# Altium footprint library Package_DFN_QFN_SON.PcbLib: 78 footprints (part 1 of 5)
Each footprint in its own frame and in the unit in brackets; x right, y up, seen from the top. Pads: shape width x height; smd on the part's side, far side on the other; paste and mask are expansions set on the pad; w line width, h text height; cw(c..) or ccw(c..) is an arc to the next point about the centre after c.
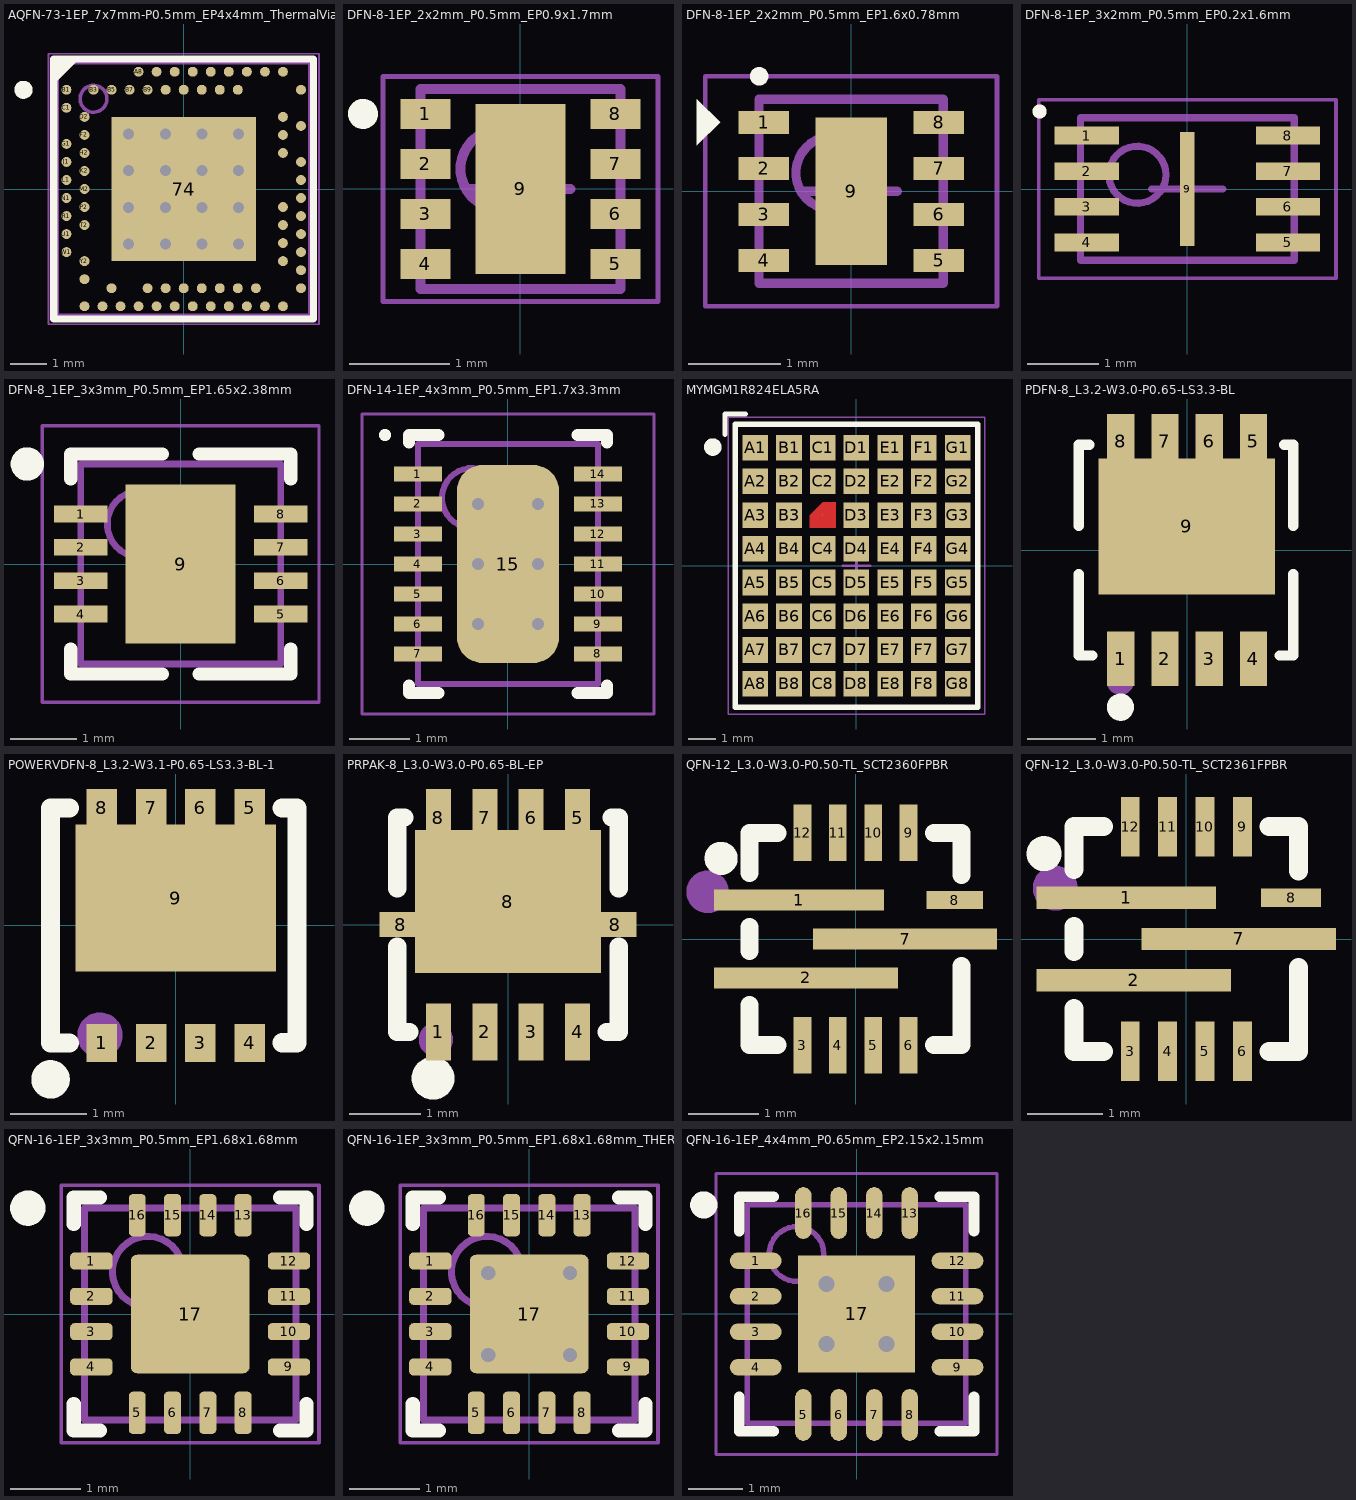
[diagram p0: the footprints below, top view; thin cyan lines are the x and y axes]

## AQFN-73-1EP_7x7mm-P0.5mm_EP4x4mm_ThermalVias [mm]
pads (74):
  rect 4x4 smd mask+0.05: 74(0,0)
  round 0.275 smd paste+0.012 mask+0.05: A8(-1.25,3.25) A10(-0.75,3.25) A12(-0.25,3.25) A14(0.25,3.25) A16(0.75,3.25) A18(1.25,3.25) A20(1.75,3.25) A22(2.25,3.25) A23(2.75,3.25) AA24(3.25,-2.25) AB2(-2.75,-2.5) AC5(-2,-2.75) AC9(-1,-2.75) AC11(-0.5,-2.75) AC13(0,-2.75) AC15(0.5,-2.75) AC17(1,-2.75) AC19(1.5,-2.75) AC21(2,-2.75) AC24(3.25,-2.75) AD2(-2.75,-3.25) AD4(-2.25,-3.25) AD6(-1.75,-3.25) AD8(-1.25,-3.25) AD10(-0.75,-3.25) AD12(-0.25,-3.25) AD14(0.25,-3.25) AD16(0.75,-3.25) AD18(1.25,-3.25) AD20(1.75,-3.25) AD22(2.25,-3.25) AD23(2.75,-3.25) B1(-3.25,2.75) B3(-2.5,2.75) B5(-2,2.75) B7(-1.5,2.75) B9(-1,2.75) B11(-0.5,2.75) B13(0,2.75) B15(0.5,2.75) B17(1,2.75) B19(1.5,2.75) B24(3.25,2.75) C1(-3.25,2.25) D2(-2.75,2) D23(2.75,2) E24(3.25,1.75) F2(-2.75,1.5) F23(2.75,1.5) G1(-3.25,1.25) H2(-2.75,1) H23(2.75,1) J1(-3.25,0.75) J24(3.25,0.75) K2(-2.75,0.5) L1(-3.25,0.25) L24(3.25,0.25) M2(-2.75,0) N1(-3.25,-0.25) N24(3.25,-0.25) P2(-2.75,-0.5) P23(2.75,-0.5) R1(-3.25,-0.75) R24(3.25,-0.75) T2(-2.75,-1) T23(2.75,-1) U1(-3.25,-1.25) U24(3.25,-1.25) V23(2.75,-1.5) W1(-3.25,-1.75) W24(3.25,-1.75) Y2(-2.75,-2) Y23(2.75,-2)
via 1.524,1.524 diameter 0.61 hole 0.305
via 0.508,1.524 diameter 0.61 hole 0.305
via -0.508,1.524 diameter 0.61 hole 0.305
via -1.524,1.524 diameter 0.61 hole 0.305
via -1.524,0.508 diameter 0.61 hole 0.305
via -1.524,-0.508 diameter 0.61 hole 0.305
via -1.524,-1.524 diameter 0.61 hole 0.305
via -0.508,-1.524 diameter 0.61 hole 0.305
via 0.508,-1.524 diameter 0.61 hole 0.305
via 1.524,-1.524 diameter 0.61 hole 0.305
via 1.524,-0.508 diameter 0.61 hole 0.305
via 1.524,0.508 diameter 0.61 hole 0.305
via -0.508,-0.508 diameter 0.61 hole 0.305
via 0.508,0.508 diameter 0.61 hole 0.305
via -0.508,0.508 diameter 0.61 hole 0.305
via 0.508,-0.508 diameter 0.61 hole 0.305
Top Overlay:
  circle w0.25: c-4.44,2.75 r0.125
  region: -3,3.5 -3.5,3 -3.5,3.5
  lines w0.2: -3.6,-3.6 3.6,-3.6 3.6,3.6 -3.6,3.6 -3.6,-3.6
Mechanical 7:
  circle w0.1: c-2.5,2.5 r0.373
  lines w0.1: -3.5,-3.5 -3.5,3.5 3.5,3.5 3.5,-3.5 -3.5,-3.5
  text ".Designator" at -0.166,-0.301 h0.3
Mechanical 15:
  lines w0.05: -3.75,-3.75 3.75,-3.75 3.75,3.75 -3.75,3.75 -3.75,-3.75
  lines w0.1: -0.5,0 0.5,0 ; 0,-0.5 0,0.5
3D body "LGA88C25P25X25_700X700X85.step": height 0.85, standoff 0, extent -3.55,-3.55 3.55,3.55

## DFN-4-EP(1x1) [mm]

## DFN-8-1EP_2x2mm_P0.5mm_EP0.9x1.7mm [mm] "SON, 8-Leads, Body 2.00x2.00mm, Pitch 0.50mm, Thermal Pad 1.55x0.78mm, IPC Medium Density"
height 0.45
pads (9):
  rect 0.5x0.3 smd: 1(-0.95,0.75) 2(-0.95,0.25) 3(-0.95,-0.25) 4(-0.95,-0.75) 5(0.95,-0.75) 6(0.95,-0.25) 7(0.95,0.25) 8(0.95,0.75)
  rect 0.9x1.7 smd: 9(0,0)
Top Overlay:
  circle w0.2: c-1.575,0.75 r0.05
Mechanical 13:
  circle w0.1: c-0.2,0.2 r0.4
  lines w0.1: -1,-1 -1,1 1,1 1,-1 -1,-1
Mechanical 15:
  lines w0.05: -1.375,-1.126 -1.375,1.125 1.375,1.125 1.375,-1.126 -1.375,-1.126
  lines w0.1: -0.5,0 0.5,0 ; 0,-0.5 0,0.5
3D body "SON50P200X45_HS-9N.step": height 0.45, standoff 0, extent -1.05,-1 1.05,1

## DFN-8-1EP_2x2mm_P0.5mm_EP1.6x0.78mm [mm] "SON, 8-Leads, Body 2.00x2.00mm, Pitch 0.50mm, Thermal Pad 1.60x0.78mm, IPC Medium Density"
height 0.8
pads (9):
  rect 0.55x0.25 smd: 1(-0.95,0.75) 2(-0.95,0.25) 3(-0.95,-0.25) 4(-0.95,-0.75) 5(0.95,-0.75) 6(0.95,-0.25) 7(0.95,0.25) 8(0.95,0.75)
  rect 0.78x1.6 smd: 9(0,0)
Top Overlay:
  circle w0.1: c-1,1.25 r0.05
  region: -1.425,0.75 -1.675,1 -1.675,0.5
Mechanical 13:
  circle w0.1: c-0.2,0.2 r0.4
  lines w0.1: -1,-1 -1,1 1,1 1,-1 -1,-1
Mechanical 15:
  lines w0.05: -1.585,-1.25 -1.585,1.25 1.585,1.25 1.585,-1.25 -1.585,-1.25
  lines w0.1: -0.5,0 0.5,0 ; 0,-0.5 0,0.5
3D body "SON50P200X80_HS-9N.step": height 0.8, standoff 0, extent -1.01,-1 1.01,1

## DFN-8-1EP_3x2mm_P0.5mm_EP0.2x1.6mm [mm] "SON, 8-Leads, Body 2.00x3.00mm, Pitch 0.50mm, Thermal Pad 1.60x0.20mm, IPC Medium Density"
height 0.55
pads (9):
  rect 0.9x0.25 smd: 1(-1.41,0.75) 2(-1.41,0.25) 3(-1.41,-0.25) 4(-1.41,-0.75) 5(1.41,-0.75) 6(1.41,-0.25) 7(1.41,0.25) 8(1.41,0.75)
  rect 0.2x1.6 smd: 9(0,0)
Top Overlay:
  circle w0.1: c-2.072,1.087 r0.05
Mechanical 13:
  circle w0.1: c-0.7,0.2 r0.4
  lines w0.1: -1.5,-1 1.5,-1 1.5,1 -1.5,1 -1.5,-1
Mechanical 15:
  lines w0.05: -2.085,-1.25 2.085,-1.25 2.085,1.25 -2.085,1.25 -2.085,-1.25
  lines w0.1: -0.5,0 0.5,0 ; 0,-0.5 0,0.5
3D body "SON50P300X55_HS-9N.step": height 0.55, standoff 0.02, extent -1.5,-1 1.5,1

## DFN-8_1EP_3x3mm_P0.5mm_EP1.65x2.38mm [mm] "QFN, 8-Leads, Body 3.00x3.00mm, Pitch 0.50mm, Thermal Pad 1.65x2.38mm, IPC Medium Density"
height 0.75
pads (9):
  rect 0.8x0.25 smd: 1(-1.5,0.75) 2(-1.5,0.25) 3(-1.5,-0.25) 4(-1.5,-0.75) 5(1.5,-0.75) 6(1.5,-0.25) 7(1.5,0.25) 8(1.5,0.75)
  rect 1.65x2.38 smd: 9(0,0)
Top Overlay:
  circle w0.25: c-2.3,1.5 r0.125
  lines w0.2: -1.65,-1.275 -1.65,-1.65 -0.275,-1.65 ; -1.65,1.275 -1.65,1.65 -0.275,1.65 ; 0.275,-1.65 1.65,-1.65 1.65,-1.275 ; 0.275,1.65 1.65,1.65 1.65,1.275
Mechanical 13:
  circle w0.1: c-0.6,0.6 r0.5
  lines w0.1: -1.5,-1.5 -1.5,1.5 1.5,1.5 1.5,-1.5 -1.5,-1.5
Mechanical 15:
  lines w0.05: -2.075,-2.075 -2.075,2.075 2.075,2.075 2.075,-2.075 -2.075,-2.075
  lines w0.1: -0.5,0 0.5,0 ; 0,-0.5 0,0.5
3D body "QFN50P300X300X75_HS-9N.step": height 0.75, standoff 0, extent -1.52,-1.5 1.52,1.5

## DFN-14-1EP_4x3mm_P0.5mm_EP1.7x3.3mm [mm] "SON, 14-Leads, Body 4.00x3.00mm, Pitch 0.50mm, Thermal Pad 3.30x1.70mm, IPC Low Density"
height 0.75
pads (15):
  rect 0.8x0.25 smd: 1(-1.5,1.5) 2(-1.5,1) 3(-1.5,0.5) 4(-1.5,0) 5(-1.5,-0.5) 6(-1.5,-1) 7(-1.5,-1.5) 8(1.5,-1.5) 9(1.5,-1) 10(1.5,-0.5) 11(1.5,0) 12(1.5,0.5) 13(1.5,1) 14(1.5,1.5)
  rrect50% 1.7x3.3 smd: 15(0,0)
via -0.5,1 diameter 0.5 hole 0.2
via 0.5,1 diameter 0.5 hole 0.2
via -0.5,0 diameter 0.5 hole 0.2
via 0.5,0 diameter 0.5 hole 0.2
via -0.5,-1 diameter 0.5 hole 0.2
via 0.5,-1 diameter 0.5 hole 0.2
Top Overlay:
  circle w0.1: c-2.05,2.15 r0.05
  lines w0.2: -1.65,-2.025 -1.65,-2.15 -1.16,-2.15 ; -1.65,2.025 -1.65,2.15 -1.16,2.15 ; 1.16,-2.15 1.65,-2.15 1.65,-2.025 ; 1.16,2.15 1.65,2.15 1.65,2.025
Mechanical 13:
  circle w0.1: c-0.6,1.1 r0.5
  lines w0.1: -1.5,-2 -1.5,2 1.5,2 1.5,-2 -1.5,-2
Mechanical 15:
  lines w0.05: -2.435,-2.5 -2.435,2.5 2.435,2.5 2.435,-2.5 -2.435,-2.5
  lines w0.1: -0.5,0 0.5,0 ; 0,-0.5 0,0.5
3D body "SON50P300X75_HS-15M.step": height 0.75, standoff 0, extent -1.6,-2 1.6,2

## MYMGM1R824ELA5RA [mm] "MYMGM1R824ELA5RA"
height 3.5
pads (56):
  rect 0.95x0.95 smd: A1(-3.75,4.375) A2(-3.75,3.125) A3(-3.75,1.875) A4(-3.75,0.625) A5(-3.75,-0.625) A6(-3.75,-1.875) A7(-3.75,-3.125) A8(-3.75,-4.375) B1(-2.5,4.375) B2(-2.5,3.125) B3(-2.5,1.875) B4(-2.5,0.625) B5(-2.5,-0.625) B6(-2.5,-1.875) B7(-2.5,-3.125) B8(-2.5,-4.375) C1(-1.25,4.375) C2(-1.25,3.125) C4(-1.25,0.625) C5(-1.25,-0.625) C6(-1.25,-1.875) C7(-1.25,-3.125) C8(-1.25,-4.375) D1(0,4.375) D2(0,3.125) D3(0,1.875) D4(0,0.625) D5(0,-0.625) D6(0,-1.875) D7(0,-3.125) D8(0,-4.375) E1(1.25,4.375) E2(1.25,3.125) E3(1.25,1.875) E4(1.25,0.625) E5(1.25,-0.625) E6(1.25,-1.875) E7(1.25,-3.125) E8(1.25,-4.375) F1(2.5,4.375) F2(2.5,3.125) F3(2.5,1.875) F4(2.5,0.625) F5(2.5,-0.625) F6(2.5,-1.875) F7(2.5,-3.125) F8(2.5,-4.375) G1(3.75,4.375) G2(3.75,3.125) G3(3.75,1.875) G4(3.75,0.625) G5(3.75,-0.625) G6(3.75,-1.875) G7(3.75,-3.125) G8(3.75,-4.375)
  round 0.025 smd: C3(-1.25,1.875)
Top Layer:
  region: -1.725,1.4 -1.725,1.875 -1.25,2.35 -0.775,2.35 -0.775,1.4
Top Overlay:
  circle w0.4: c-5.325,4.4 r0.125
  lines w0.2: -4.875,4.875 -4.875,5.625 -4.125,5.625 ; -4.5,-5.25 -4.5,5.25 4.5,5.25 4.5,-5.25 -4.5,-5.25
Mechanical 13:
  lines w0.1: -4.5,-5.25 4.5,-5.25 4.5,5.25 -4.5,5.25 -4.5,-5.25
Mechanical 15:
  lines w0.05: -4.75,-5.5 4.75,-5.5 4.75,5.5 -4.75,5.5 -4.75,-5.5
  lines w0.1: -0.5,0 0.5,0 ; 0,-0.5 0,0.5
3D body "MYMGM1R824_MYMGM1R816_step.STEP": height 4.98, standoff -0.02, extent -4.5,-5.25 4.5,5.25

## PDFN-8_L3.2-W3.0-P0.65-LS3.3-BL [mm]
pads (9):
  rect 0.4x0.8 smd: 1(-0.975,-1.6) 2(-0.325,-1.6) 3(0.325,-1.6) 4(0.975,-1.6) 5(0.975,1.6) 6(0.325,1.6) 7(-0.325,1.6) 8(-0.975,1.6)
  rect 2.6x2 smd: 9(-0.005,0.35)
Top Overlay:
  circle w0.2: c-0.98,-2.31 r0.1
  lines w0.152: -1.592,-0.354 -1.592,-1.55 -1.396,-1.55 ; -1.592,0.354 -1.592,1.55 -1.434,1.55 ; 1.362,-1.55 1.56,-1.55 1.56,-0.354 ; 1.425,1.55 1.56,1.55 1.56,0.354
Top Paste:
  region: -1.175,-2 -1.175,-1.2 -0.775,-1.2 -0.775,-2
  region: -0.525,-2 -0.525,-1.2 -0.125,-1.2 -0.125,-2
  region: 0.125,-2 0.125,-1.2 0.525,-1.2 0.525,-2
  region: 0.775,-2 0.775,-1.2 1.175,-1.2 1.175,-2
  region: -1.172,1.999 -0.774,1.999 -0.774,1.351 -0.526,1.351 -0.526,2 -0.127,2 -0.127,1.35 0.133,1.35 0.133,2.002 0.525,2.002 0.525,1.349 0.775,1.349 0.775,2 1.176,2 1.176,1.348 1.297,1.348 1.297,-0.649 -1.304,-0.649 -1.304,1.346 -1.175,1.346 -1.175,1.341
Mechanical 15:
  circle w0.2: c-0.98,-1.93 r0.1
3D body "SON65P330X100_HS-9N.step": height 1.05, standoff 0.05, extent -1.65,-1.651 1.65,1.651

## POWERVDFN-8_L3.2-W3.1-P0.65-LS3.3-BL-1 [mm]
pads (9):
  rect 0.4x0.5 smd: 1(-0.975,-1.55) 2(-0.325,-1.55) 3(0.325,-1.55) 4(0.975,-1.55) 5(0.975,1.55) 6(0.325,1.55) 7(-0.325,1.55) 8(-0.975,1.55)
  rect 2.65x1.94 smd: 9(0,0.36)
Top Overlay:
  circle w0.254: c-1.651,-2.032 r0.127
  lines w0.254: -1.406,-1.551 -1.652,-1.551 -1.652,1.551 -1.406,1.551 ; 1.406,-1.55 1.6,-1.55 1.6,1.55 1.406,1.55
Top Paste:
  region: 1.3,-0.44 -1.3,-0.44 -1.3,1.16 1.3,1.16
  region: -1.177,1.56 -1.177,1.8 -0.777,1.8 -0.777,1.56
  region: -0.527,1.56 -0.527,1.8 -0.127,1.8 -0.127,1.56
  region: 0.123,1.56 0.123,1.8 0.523,1.8 0.523,1.56
  region: 0.773,1.56 0.773,1.8 1.173,1.8 1.173,1.56
  region: -0.776,-1.301 -0.776,-1.801 -1.176,-1.801 -1.176,-1.301
  region: -0.526,-1.801 -0.526,-1.301 -0.126,-1.301 -0.126,-1.801
  region: 0.124,-1.801 0.124,-1.301 0.524,-1.301 0.524,-1.801
  region: 0.774,-1.801 0.774,-1.301 1.174,-1.301 1.174,-1.801
Mechanical 15:
  circle w0.3: c-1,-1.45 r0.15

## PRPAK-8_L3.0-W3.0-P0.65-BL-EP [mm]
pads (11):
  rect 0.35x0.8 smd: 1(-0.975,-1.5) 2(-0.325,-1.5) 3(0.325,-1.5) 4(0.975,-1.5) 5(0.975,1.5) 6(0.325,1.5) 7(-0.325,1.5) 8(-0.975,1.5)
  rect 0.6x0.35 smd: 8(-1.5,0) 8(1.5,0)
  rect 2.6x2 smd: 8(0,0.325)
Top Overlay:
  circle w0.3: c-1.05,-2.15 r0.15
  lines w0.254: -1.55,-0.306 -1.55,-1.5 -1.382,-1.5 ; -1.55,0.506 -1.55,1.5 -1.45,1.5 ; 1.381,-1.5 1.55,-1.5 1.55,-0.306 ; 1.449,1.5 1.55,1.5 1.55,0.506
Top Paste:
  region: -1.15,-1.1 -0.8,-1.1 -0.8,-1.9 -1.15,-1.9
  region: -0.5,-1.1 -0.15,-1.1 -0.15,-1.9 -0.5,-1.9
  region: 0.15,-1.1 0.5,-1.1 0.5,-1.9 0.15,-1.9
  region: 0.8,-1.1 1.15,-1.1 1.15,-1.9 0.8,-1.9
  region: -1.3,1.325 1.3,1.325 1.3,-0.675 -1.3,-0.675
  region: 0.8,1.52 0.8,1.9 1.15,1.9 1.15,1.52
  region: 0.15,1.52 0.15,1.9 0.5,1.9 0.5,1.52
  region: -0.5,1.52 -0.5,1.9 -0.15,1.9 -0.15,1.52
  region: -1.15,1.52 -1.15,1.9 -0.8,1.9 -0.8,1.52
  region: -1.55,-0.175 -1.8,-0.175 -1.8,0.175 -1.55,0.175
  region: 1.55,0.175 1.8,0.175 1.8,-0.175 1.55,-0.175
Mechanical 15:
  circle w0.24: c-1.01,-1.61 r0.12

## QFN-12_L3.0-W3.0-P0.50-TL_SCT2360FPBR [mm]
pads (12):
  rect 2.4x0.3 smd: 1(-0.8,0.55)
  rect 2.6x0.3 smd: 2(-0.7,-0.55) 7(0.7,0)
  rect 0.25x0.8 smd: 3(-0.75,-1.5) 4(-0.25,-1.5) 5(0.25,-1.5) 6(0.75,-1.5) 9(0.75,1.5) 10(0.25,1.5) 11(-0.25,1.5) 12(-0.75,1.5)
  rect 0.8x0.25 smd: 8(1.4,0.55)
Top Overlay:
  circle w0.254: c-1.9,1.14 r0.108
  lines w0.254: -1.5,-0.931 -1.5,-1.5 -1.106,-1.5 ; -1.5,-0.169 -1.5,0.169 ; -1.5,0.931 -1.5,1.5 -1.106,1.5 ; 1.106,-1.5 1.5,-1.5 1.5,-0.381 ; 1.106,1.5 1.5,1.5 1.5,0.906
Mechanical 15:
  circle w0.3: c-2.091,0.667 r0.15
3D body: height 0.75, standoff 0, extent -1.5,-1.5 1.5,1.5

## QFN-12_L3.0-W3.0-P0.50-TL_SCT2361FPBR [mm]
pads (12):
  rect 2.4x0.3 smd: 1(-0.8,0.55)
  rect 2.6x0.3 smd: 2(-0.7,-0.55) 7(0.7,0)
  rect 0.25x0.8 smd: 3(-0.75,-1.5) 4(-0.25,-1.5) 5(0.25,-1.5) 6(0.75,-1.5) 9(0.75,1.5) 10(0.25,1.5) 11(-0.25,1.5) 12(-0.75,1.5)
  rect 0.8x0.25 smd: 8(1.4,0.55)
Top Overlay:
  circle w0.254: c-1.9,1.14 r0.108
  lines w0.254: -1.5,-0.931 -1.5,-1.5 -1.106,-1.5 ; -1.5,-0.169 -1.5,0.169 ; -1.5,0.931 -1.5,1.5 -1.106,1.5 ; 1.106,-1.5 1.5,-1.5 1.5,-0.381 ; 1.106,1.5 1.5,1.5 1.5,0.906
Mechanical 15:
  circle w0.3: c-1.75,0.68 r0.15
3D body: height 0.75, standoff 0, extent -1.5,-1.5 1.5,1.5

## QFN-16-1EP_3x3mm_P0.5mm_EP1.68x1.68mm [mm] "QFN, 16-Leads, Body 3.00x3.00mm, Pitch 0.50mm, Thermal Pad 1.68x1.68mm, IPC High Density"
height 0.9
pads (17):
  rrect50% 0.6x0.24 smd: 1(-1.4,0.75) 2(-1.4,0.25) 3(-1.4,-0.25) 4(-1.4,-0.75) 9(1.4,-0.75) 10(1.4,-0.25) 11(1.4,0.25) 12(1.4,0.75)
  rrect50% 0.24x0.6 smd: 5(-0.75,-1.4) 6(-0.25,-1.4) 7(0.25,-1.4) 8(0.75,-1.4) 13(0.75,1.4) 14(0.25,1.4) 15(-0.25,1.4) 16(-0.75,1.4)
  rrect10% 1.68x1.68 smd: 17(0,0)
Top Overlay:
  circle w0.25: c-2.3,1.5 r0.125
  lines w0.2: -1.65,-1.275 -1.65,-1.65 -1.275,-1.65 ; -1.65,1.275 -1.65,1.65 -1.275,1.65 ; 1.275,-1.65 1.65,-1.65 1.65,-1.275 ; 1.275,1.65 1.65,1.65 1.65,1.275
Mechanical 13:
  circle w0.1: c-0.6,0.6 r0.5
  lines w0.1: -1.5,-1.5 1.5,-1.5 1.5,1.5 -1.5,1.5 -1.5,-1.5
Mechanical 15:
  lines w0.05: -1.825,-1.825 1.825,-1.825 1.825,1.825 -1.825,1.825 -1.825,-1.825
  lines w0.1: -0.5,0 0.5,0 ; 0,-0.5 0,0.5
3D body "QFN50P300X300X90_HS-17L.step": height 0.9, standoff 0, extent -1.55,-1.55 1.55,1.55

## QFN-16-1EP_3x3mm_P0.5mm_EP1.68x1.68mm_THERMAL [mm] "QFN, 16-Leads, Body 3.00x3.00mm, Pitch 0.50mm, Thermal Pad 1.68x1.68mm, IPC High Density"
height 0.9
pads (17):
  rrect50% 0.6x0.24 smd: 1(-1.4,0.75) 2(-1.4,0.25) 3(-1.4,-0.25) 4(-1.4,-0.75) 9(1.4,-0.75) 10(1.4,-0.25) 11(1.4,0.25) 12(1.4,0.75)
  rrect50% 0.24x0.6 smd: 5(-0.75,-1.4) 6(-0.25,-1.4) 7(0.25,-1.4) 8(0.75,-1.4) 13(0.75,1.4) 14(0.25,1.4) 15(-0.25,1.4) 16(-0.75,1.4)
  rrect10% 1.68x1.68 smd: 17(0,0)
via -0.58,-0.58 diameter 0.4 hole 0.2
via 0.58,0.58 diameter 0.4 hole 0.2
via -0.58,0.58 diameter 0.4 hole 0.2
via 0.58,-0.58 diameter 0.4 hole 0.2
Top Overlay:
  circle w0.25: c-2.3,1.5 r0.125
  lines w0.2: -1.65,-1.275 -1.65,-1.65 -1.275,-1.65 ; -1.65,1.275 -1.65,1.65 -1.275,1.65 ; 1.275,-1.65 1.65,-1.65 1.65,-1.275 ; 1.275,1.65 1.65,1.65 1.65,1.275
Mechanical 13:
  circle w0.1: c-0.6,0.6 r0.5
  lines w0.1: -1.5,-1.5 1.5,-1.5 1.5,1.5 -1.5,1.5 -1.5,-1.5
Mechanical 15:
  lines w0.05: -1.825,-1.825 1.825,-1.825 1.825,1.825 -1.825,1.825 -1.825,-1.825
  lines w0.1: -0.5,0 0.5,0 ; 0,-0.5 0,0.5
3D body "QFN50P300X300X90_HS-17L.step": height 0.9, standoff 0, extent -1.55,-1.55 1.55,1.55

## QFN-16-1EP_4x4mm_P0.65mm_EP2.15x2.15mm [mm] "QFN, 16-Leads, Body 4.00x4.00mm, Pitch 0.65mm, Thermal Pad 2.15x2.15mm, IPC Medium Density"
height 0.75
pads (17):
  oval 0.95x0.3 smd: 1(-1.85,0.975) 2(-1.85,0.325) 3(-1.85,-0.325) 4(-1.85,-0.975) 9(1.85,-0.975) 10(1.85,-0.325) 11(1.85,0.325) 12(1.85,0.975)
  oval 0.3x0.95 smd: 5(-0.975,-1.85) 6(-0.325,-1.85) 7(0.325,-1.85) 8(0.975,-1.85) 13(0.975,1.85) 14(0.325,1.85) 15(-0.325,1.85) 16(-0.975,1.85)
  rect 2.15x2.15 smd: 17(0,0)
via -0.55,0.55 diameter 0.5 hole 0.3
via 0.55,0.55 diameter 0.5 hole 0.3
via -0.55,-0.55 diameter 0.5 hole 0.3
via 0.55,-0.55 diameter 0.5 hole 0.3
Top Overlay:
  circle w0.25: c-2.8,2 r0.125
  lines w0.2: -2.15,-1.525 -2.15,-2.15 -1.525,-2.15 ; -2.15,1.525 -2.15,2.15 -1.525,2.15 ; 1.525,-2.15 2.15,-2.15 2.15,-1.525 ; 1.525,2.15 2.15,2.15 2.15,1.525
Mechanical 13:
  circle w0.1: c-1.1,1.1 r0.5
  lines w0.1: -2,-2 -2,2 2,2 2,-2 -2,-2
Mechanical 15:
  lines w0.05: -2.575,-2.575 -2.575,2.575 2.575,2.575 2.575,-2.575 -2.575,-2.575
  lines w0.1: -0.5,0 0.5,0 ; 0,-0.5 0,0.5
3D body "QFN65P400X400X75_HS-17N.step": height 0.75, standoff 0, extent -2.05,-2.05 2.05,2.05